# Altium footprint library Optocoupler SMD.PcbLib: 2 footprints
Each footprint in its own frame and in the unit in brackets; x right, y up, seen from the top. Pads: shape width x height; smd on the part's side, far side on the other; paste and mask are expansions set on the pad; w line width, h text height; cw(c..) or ccw(c..) is an arc to the next point about the centre after c.
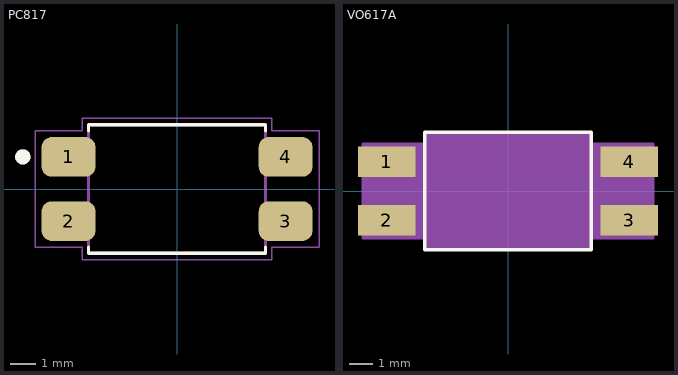
[diagram p0: the footprints below, top view; thin cyan lines are the x and y axes]

## PC817 [mm]
pads (4):
  rrect50% 2.13x1.57 smd: 1(-4.29,1.27) 2(-4.29,-1.27) 3(4.29,-1.27) 4(4.29,1.27)
Top Overlay:
  circle w0.3: c-6.1,1.27 r0.15
  lines w0.127: -3.5,-2.304 -3.5,-2.54 3.5,-2.54 3.5,-2.304 ; -3.5,2.304 -3.5,2.54 3.5,2.54 3.5,2.304
Mechanical 13:
  circle w0.3: c-6.1,1.27 r0.15
  lines w0.127: -3.5,-2.54 -3.5,2.54 3.5,2.54 3.5,-2.54 -3.5,-2.54
Mechanical 15:
  lines w0.05: -5.61,-2.31 -5.61,2.31 -3.75,2.31 -3.75,2.79 3.75,2.79 3.75,2.31 5.61,2.31 5.61,-2.31 3.75,-2.31 3.75,-2.79 -3.75,-2.79 -3.75,-2.31 -5.61,-2.31
3D body "step_temp.STEP": height 4, standoff 0, extent -4.875,-2.29 4.875,2.29

## VO617A [mil]
pads (4):
  rect 98.43x52 smd paste+0 mask+0: 1(-208,50) 2(-208,-50) 3(208,-50) 4(208,50)
Top Overlay:
  lines w6: -143,-101 143,-101 143,101 -143,101 -143,-101
  text "*" at -230.5,97 h0
Mechanical 13:
  lines w0: -12,96 ccw(c0,96) 12,96
  lines w1: -238,-76 -238,-24 -138,-24 -138,-76 -238,-76 ; -238,24 -238,76 -138,76 -138,24 -238,24 ; -138,-96 138,-96 138,96 -138,96 -138,-96 ; 138,-76 138,-24 238,-24 238,-76 138,-76 ; 138,24 138,76 238,76 238,24 138,24
  text "*" at -135.5,43 h0
Mechanical 15:
  region: -142,-80 -248,-80 -248,80 -142,80 -142,100 142,100 142,80 248,80 248,-80 142,-80 142,-100 -142,-100
  lines w6: -248,-80 -248,80 -142,80 -142,100 142,100 142,80 248,80 248,-80 142,-80 142,-100 -142,-100 -142,-80 -248,-80
3D body "SMD-4-OPT8_VO617A_VIS.step": height 163.11, standoff 0, extent -237.99,-95.98 237.99,95.98